# Altium schematic symbol library Resistors (2).SchLib: 59 symbols (part 1 of 2)
Pins are listed as number, name and electrical type; pins without a type are passive.

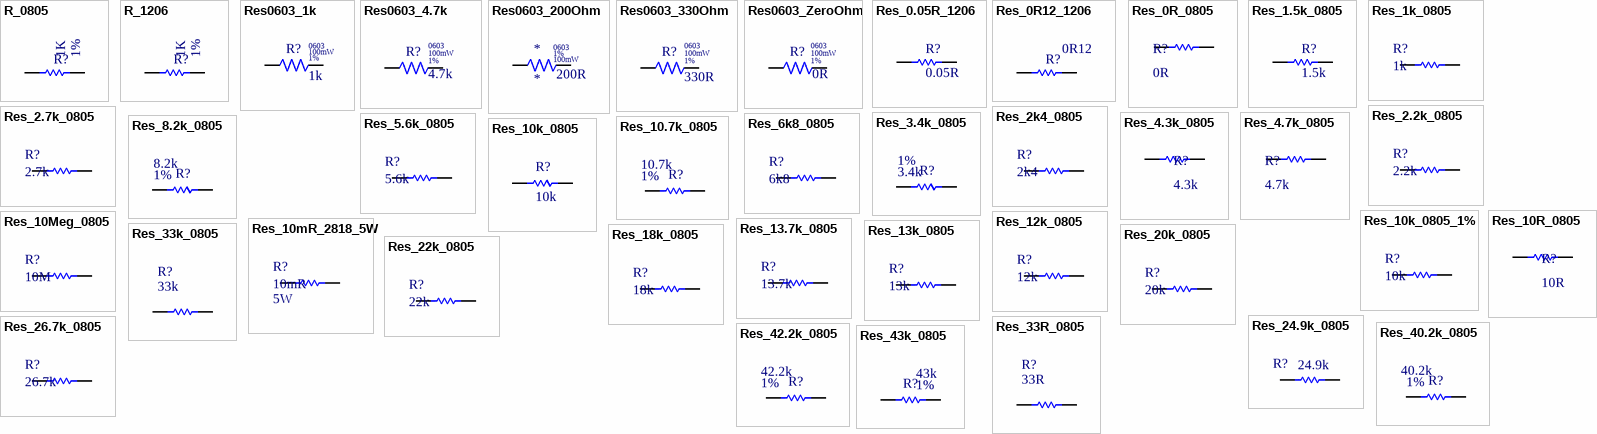
[diagram p0: symbols R_0805 to Res_43k_0805]

## R_0805
designator R?, comment value 1K  Tolerance: 1%  (hidden comment: Resistor SMD 0805)
RES SMD 0805 1k 1/8W
footprint Resistor_0805
pins: 1, 2

## R_1206
designator R?, comment value 1K  Tolerance: 1%  (hidden comment: Resistor SMD 0805)
Resistor SMD 1206
footprint Resistor_1206
pins: 1, 2

## Res0603_1k
designator R?  Power Rating: 100mW  Tolerance: 1%  Resistance: 1k  Case/Package: 0603  (hidden comment: *)
Manufacturer 1: Yageo; Manufacturer Part Number 1: RC0603FR-071KL; Temperature Coefficient: 100ppm/°C; Voltage Rating: 50V; Supplier 1: Digi-Key; Stock 1: 49116190; Pricing 1: 1=0.10000, 10=0.02400, 100=0.00970, 1000=0.00437, 2500=0.00379 (USD); RoHS: Yes; Contact Plating: Tin; Case Code (Imperial): 0603; Case Code (Metric): 1608; Min Operating Temperature: -55°C; Max Operating Temperature: 155°C; Composition: Thick Film; Packaging: Tape and Reel; Termination: SMD/SMT; Military Standard: Not; Length: 1.6mm; Height: 0.45mm; Depth: 0.8mm; Radiation Hardening: No; REACH SVHC: No SVHC; Lead Free: Lead Free; ComponentLink1URL: https://datasheet.ciiva.com/11808/0900766b80f96399-11808081.pdf?src-supplier=RSComponents; ComponentLink1Description: https://datasheet.ciiva.com/11808/0900766b80f96399-11808081.pdf?src-supplier=RSComponents; ComponentLink2URL: https://datasheet.ciiva.com/25906/pyu-rc0603-51-rohs-l-4-25906933.pdf?src-supplier=Avnet+Europe; ComponentLink2Description: https://datasheet.ciiva.com/25906/pyu-rc0603-51-rohs-l-4-25906933.pdf?src-supplier=Avnet+Europe; ComponentLink3URL: https://datasheet.ciiva.com/7660/1868787-7660790.pdf?src-supplier=Element14; ComponentLink3Description: https://datasheet.ciiva.com/7660/1868787-7660790.pdf?src-supplier=Element14; ComponentLink4URL: https://datasheet.ciiva.com/7746/1738695-7746279.pdf?src-supplier=Element14; ComponentLink4Description: https://datasheet.ciiva.com/7746/1738695-7746279.pdf?src-supplier=Element14; ComponentLink5URL: https://datasheet.ciiva.com/7746/1686128-7746280.pdf?src-supplier=Element14; ComponentLink5Description: https://datasheet.ciiva.com/7746/1686128-7746280.pdf?src-supplier=Element14; ComponentLink6URL: https://datasheet.ciiva.com/28386/pyu-rc0603-51-rohs-l-4-28386648.pdf?src-supplier=Avnet+Europe; ComponentLink6Description: https://datasheet.ciiva.com/28386/pyu-rc0603-51-rohs-l-4-28386648.pdf?src-supplier=Avnet+Europe; ComponentLink7URL: https://datasheet.ciiva.com/7746/1738695-7746281.pdf?src-supplier=Element14; ComponentLink7Description: https://datasheet.ciiva.com/7746/1738695-7746281.pdf?src-supplier=Element14; ComponentLink8URL: https://datasheet.ciiva.com/8896/pyu-rc0603-51-rohs-l-4-8896106.pdf?src-supplier=Avnet; ComponentLink8Description: https://datasheet.ciiva.com/8896/pyu-rc0603-51-rohs-l-4-8896106.pdf?src-supplier=Avnet; ComponentLink9URL: https://datasheet.ciiva.com/15189/getdatasheetpartid-404327-15189644.pdf?src-supplier=Verical; ComponentLink9Description: https://datasheet.ciiva.com/15189/getdatasheetpartid-404327-15189644.pdf?src-supplier=Verical; ComponentLink10URL: https://datasheet.ciiva.com/7983/443971-7983613.pdf?src-supplier=Element14; ComponentLink10Description: https://datasheet.ciiva.com/7983/443971-7983613.pdf?src-supplier=Element14; Supplier Part Number 1: 311-1.00KHRCT-ND
footprint RESC0603X06M (Chip Resistor, 2-Leads, Body 1.60x0.80mm, IPC Low Density)
pins: 1, 2

## Res0603_4.7k
designator R?  Power Rating: 100mW  Case/Package: 0603  Tolerance: 1%  Resistance: 4.7k
Manufacturer 1: Yageo; Manufacturer Part Number 1: RC0603FR-074K7L; Voltage Rating (DC): 50V; Temperature Coefficient: 100ppm/°C; ComponentLink1URL: https://datasheet.ciiva.com/7886/aoa0000ce2-7886729.pdf?src-supplier=Element14; ComponentLink1Description: https://datasheet.ciiva.com/7886/aoa0000ce2-7886729.pdf?src-supplier=Element14; ComponentLink2URL: https://datasheet.ciiva.com/48531/aoa0000ce2-48531001.pdf?src-supplier=Avnet; ComponentLink2Description: https://datasheet.ciiva.com/48531/aoa0000ce2-48531001.pdf?src-supplier=Avnet; ComponentLink3URL: https://datasheet.ciiva.com/9117/aoa0000ce2-9117132.pdf?src-supplier=Avnet; ComponentLink3Description: https://datasheet.ciiva.com/9117/aoa0000ce2-9117132.pdf?src-supplier=Avnet; ComponentLink4URL: https://datasheet.ciiva.com/22721/426256-22721099.pdf?src-supplier=Element14; ComponentLink4Description: https://datasheet.ciiva.com/22721/426256-22721099.pdf?src-supplier=Element14; ComponentLink5URL: https://datasheet.ciiva.com/46373/1678782-46373899.pdf?src-supplier=Element14; ComponentLink5Description: https://datasheet.ciiva.com/46373/1678782-46373899.pdf?src-supplier=Element14; ComponentLink6URL: https://datasheet.ciiva.com/46373/1678782-46373900.pdf?src-supplier=Element14; ComponentLink6Description: https://datasheet.ciiva.com/46373/1678782-46373900.pdf?src-supplier=Element14; ComponentLink7URL: https://datasheet.ciiva.com/15189/getdatasheetpartid-422754-15189760.pdf?src-supplier=Verical; ComponentLink7Description: https://datasheet.ciiva.com/15189/getdatasheetpartid-422754-15189760.pdf?src-supplier=Verical; ComponentLink8URL: https://datasheet.ciiva.com/22747/443971-22747528.pdf?src-supplier=Element14; ComponentLink8Description: https://datasheet.ciiva.com/22747/443971-22747528.pdf?src-supplier=Element14; ComponentLink9URL: https://datasheet.ciiva.com/7660/38590-7660794.pdf?src-supplier=Element14; ComponentLink9Description: https://datasheet.ciiva.com/7660/38590-7660794.pdf?src-supplier=Element14; ComponentLink10URL: https://datasheet.ciiva.com/7746/1868787-7746365.pdf?src-supplier=Element14; ComponentLink10Description: https://datasheet.ciiva.com/7746/1868787-7746365.pdf?src-supplier=Element14; ComponentLink11URL: https://datasheet.ciiva.com/46440/1868787-46440909.pdf?src-supplier=Element14; ComponentLink11Description: https://datasheet.ciiva.com/46440/1868787-46440909.pdf?src-supplier=Element14; ComponentLink12URL: https://datasheet.ciiva.com/7746/1738695-7746366.pdf?src-supplier=Element14; ComponentLink12Description: https://datasheet.ciiva.com/7746/1738695-7746366.pdf?src-supplier=Element14; Supplier 1: Digi-Key; Stock 1: 17371470; Pricing 1: 1=0.10000, 10=0.02400, 100=0.00970, 1000=0.00437, 2500=0.00379 (USD); RoHS: Yes; Number of Pins: 2; Case Code (Imperial): 0603; Case Code (Metric): 1608; Min Operating Temperature: -55°C; Max Operating Temperature: 155°C; Packaging: Tape and Reel; Composition: Thick Film; Voltage Rating: 50V; Termination: SMD/SMT; Military Standard: Not; Length: 1.6mm; Height: 0.45mm; Width: 0.8mm; Depth: 0.8mm; Lead Pitch: 0.3mm; REACH SVHC: No SVHC; Lead Free: Lead Free; Supplier Part Number 1: 311-4.70KHRCT-ND
footprint RESC0603X06M (Chip Resistor, 2-Leads, Body 1.60x0.80mm, IPC Low Density)
pins: 1, 2

## Res0603_200Ohm
designator *  Tolerance: 1%  Resistance: 200R  Power Rating: 100mW  Case/Package: 0603
Manufacturer 1: Yageo; Manufacturer Part Number 1: RC0603FR-07200RL; Voltage Rating: 50V; Temperature Coefficient: 100ppm/°C; Working Voltage: 75V; ComponentLink1URL: https://datasheet.ciiva.com/27055/1935748-27055113.pdf?src-supplier=Jameco; ComponentLink1Description: https://datasheet.ciiva.com/27055/1935748-27055113.pdf?src-supplier=Jameco; ComponentLink2URL: https://datasheet.ciiva.com/11808/0900766b80f806dd-11808207.pdf?src-supplier=RSComponents; ComponentLink2Description: https://datasheet.ciiva.com/11808/0900766b80f806dd-11808207.pdf?src-supplier=RSComponents; ComponentLink3URL: https://datasheet.ciiva.com/43460/1678796-43460647.pdf?src-supplier=Farnell; ComponentLink3Description: https://datasheet.ciiva.com/43460/1678796-43460647.pdf?src-supplier=Farnell; ComponentLink4URL: https://datasheet.ciiva.com/28695/1678796-28695833.pdf?src-supplier=Element14; ComponentLink4Description: https://datasheet.ciiva.com/28695/1678796-28695833.pdf?src-supplier=Element14; ComponentLink5URL: https://datasheet.ciiva.com/5959/1678796-5959707.pdf?src-supplier=Farnell; ComponentLink5Description: https://datasheet.ciiva.com/5959/1678796-5959707.pdf?src-supplier=Farnell; ComponentLink6URL: https://datasheet.ciiva.com/16834/aoa0000ce1-16834828.pdf?src-supplier=Future+Electronics; ComponentLink6Description: https://datasheet.ciiva.com/16834/aoa0000ce1-16834828.pdf?src-supplier=Future+Electronics; ComponentLink7URL: https://datasheet.ciiva.com/17215/aoa0000ce1-17215388.pdf?src-supplier=Avnet+Europe; ComponentLink7Description: https://datasheet.ciiva.com/17215/aoa0000ce1-17215388.pdf?src-supplier=Avnet+Europe; ComponentLink8URL: https://datasheet.ciiva.com/46377/1678796-46377868.pdf?src-supplier=Element14; ComponentLink8Description: https://datasheet.ciiva.com/46377/1678796-46377868.pdf?src-supplier=Element14; ComponentLink9URL: https://datasheet.ciiva.com/30199/4aoa0000ce1-30199822.pdf?src-supplier=Onlinecomponents.com; ComponentLink9Description: https://datasheet.ciiva.com/30199/4aoa0000ce1-30199822.pdf?src-supplier=Onlinecomponents.com; ComponentLink10URL: https://datasheet.ciiva.com/9198/aoa0000ce1-9198975.pdf?src-supplier=Avnet; ComponentLink10Description: https://datasheet.ciiva.com/9198/aoa0000ce1-9198975.pdf?src-supplier=Avnet; ComponentLink11URL: https://datasheet.ciiva.com/16758/70255313-16758527.pdf?src-supplier=Allied+Electronics; ComponentLink11Description: https://datasheet.ciiva.com/16758/70255313-16758527.pdf?src-supplier=Allied+Electronics; ComponentLink12URL: https://datasheet.ciiva.com/11808/0900766b80c66297-11808855.pdf?src-supplier=RSComponents; ComponentLink12Description: https://datasheet.ciiva.com/11808/0900766b80c66297-11808855.pdf?src-supplier=RSComponents; ComponentLink13URL: https://datasheet.ciiva.com/2456/pyu-r-int-thick-7-2456909.pdf?src-supplier=Digi-Key; ComponentLink13Description: https://datasheet.ciiva.com/2456/pyu-r-int-thick-7-2456909.pdf?src-supplier=Digi-Key; ComponentLink14URL: https://datasheet.ciiva.com/2456/pyu-r-int-thick-7-2456910.pdf?src-supplier=Digi-Key; ComponentLink14Description: https://datasheet.ciiva.com/2456/pyu-r-int-thick-7-2456910.pdf?src-supplier=Digi-Key; ComponentLink15URL: https://datasheet.ciiva.com/2456/pyu-r-int-thick-7-2456911.pdf?src-supplier=Digi-Key; ComponentLink15Description: https://datasheet.ciiva.com/2456/pyu-r-int-thick-7-2456911.pdf?src-supplier=Digi-Key; ComponentLink16URL: https://datasheet.ciiva.com/11809/0900766b80f96399-11809240.pdf?src-supplier=RSComponents; ComponentLink16Description: https://datasheet.ciiva.com/11809/0900766b80f96399-11809240.pdf?src-supplier=RSComponents; ComponentLink17URL: https://datasheet.ciiva.com/46395/443971-46395029.pdf?src-supplier=Element14; ComponentLink17Description: https://datasheet.ciiva.com/46395/443971-46395029.pdf?src-supplier=Element14; Supplier 1: Digi-Key; Stock 1: 4895828; Pricing 1: 1=0.10000, 10=0.02400, 100=0.00970, 1000=0.00437, 2500=0.00379 (USD); RoHS: Yes; Number of Pins: 2; Case Code (Imperial): 0603; Case Code (Metric): 1608; Min Operating Temperature: -55°C; Max Operating Temperature: 155°C; Packaging: Tape and Reel; Package Quantity: 5000; Termination: SMD/SMT; Composition: Thick Film; Voltage Rating (DC): 50V; Number of Terminations: 2; Military Standard: Not; Length: 1.6mm; Height: 0.45mm; Width: 0.8mm; Depth: 0.8mm; Lead Free: Lead Free; REACH SVHC: No SVHC; Supplier Part Number 1: 311-200HRCT-ND
footprint RESC0603X06M (Chip Resistor, 2-Leads, Body 1.60x0.80mm, IPC Low Density)
pins: 1, 2

## Res0603_330Ohm
designator R?  Tolerance: 1%  Power Rating: 100mW  Resistance: 330R  Case Code (Imperial): 0603
Manufacturer 1: Panasonic; Manufacturer Part Number 1: ERJ3EKF3300V; Voltage Rating: 75V; Temperature Coefficient: 100ppm/°C; Supplier 1: Digi-Key; Supplier Part Number 1: P330HCT-ND; Stock 1: 2521805; Pricing 1: 1=0.100000, 10=0.065000, 100=0.026400, 1000=0.011860, 2500=0.010290 (USD); RoHS: Yes; Mount: Surface Mount; Number of Pins: 2; Weight: 7.1E-05oz; Contact Plating: Tin; Min Operating Temperature: -55°C; Max Operating Temperature: 155°C; Packaging: Tape and Reel; Package Quantity: 1; Composition: Thick Film; Termination: SMD/SMT; Number of Terminations: 2; Military Standard: Not; Max Power Dissipation: 100mW; Voltage Rating (DC): 75V; Features: Automotive AEC-Q200; Length: 1.6mm; Height: 0.022inch; Width: 0.8mm; Depth: 0.8mm; Radiation Hardening: No; REACH SVHC: No SVHC; Lead Free: Lead Free; ComponentLink1URL: https://datasheet.ciiva.com/7886/aoa0000ce2-7886729.pdf?src-supplier=Element14; ComponentLink1Description: https://datasheet.ciiva.com/7886/aoa0000ce2-7886729.pdf?src-supplier=Element14; ComponentLink2URL: https://datasheet.ciiva.com/48531/aoa0000ce2-48531001.pdf?src-supplier=Avnet; ComponentLink2Description: https://datasheet.ciiva.com/48531/aoa0000ce2-48531001.pdf?src-supplier=Avnet; ComponentLink3URL: https://datasheet.ciiva.com/9117/aoa0000ce2-9117132.pdf?src-supplier=Avnet; ComponentLink3Description: https://datasheet.ciiva.com/9117/aoa0000ce2-9117132.pdf?src-supplier=Avnet; ComponentLink4URL: https://datasheet.ciiva.com/22721/426256-22721099.pdf?src-supplier=Element14; ComponentLink4Description: https://datasheet.ciiva.com/22721/426256-22721099.pdf?src-supplier=Element14; ComponentLink5URL: https://datasheet.ciiva.com/46373/1678782-46373899.pdf?src-supplier=Element14; ComponentLink5Description: https://datasheet.ciiva.com/46373/1678782-46373899.pdf?src-supplier=Element14; ComponentLink6URL: https://datasheet.ciiva.com/46373/1678782-46373900.pdf?src-supplier=Element14; ComponentLink6Description: https://datasheet.ciiva.com/46373/1678782-46373900.pdf?src-supplier=Element14; Case Code (Metric): 1608; Case/Package: 0603
footprint RESC0603X06M (Chip Resistor, 2-Leads, Body 1.60x0.80mm, IPC Low Density)
pins: 1, 2

## Res0603_ZeroOhm
designator R?  Resistance: 0R  Tolerance: 1%  Power Rating: 100mW  Case/Package: 0603  (hidden comment: *)
Manufacturer 1: Yageo; Manufacturer Part Number 1: RC0603JR-070RL; Voltage Rating: 50V; Temperature Coefficient: 200ppm/°C; Supplier 1: Digi-Key; Stock 1: 41798498; Pricing 1: 1=0.10000, 10=0.02200, 25=0.01560, 50=0.01200, 100=0.00880, 250=0.00672, 500=0.00538, 1000=0.00396 (USD); RoHS: Yes; Number of Pins: 2; Case Code (Imperial): 0603; Case Code (Metric): 1608; Contact Plating: Tin; Min Operating Temperature: -55°C; Max Operating Temperature: 155°C; Package Quantity: 5000; Packaging: Tape and Reel; Voltage Rating (DC): 50V; Termination: SMD/SMT; Composition: Thick Film; Military Standard: Not; Length: 1.6mm; Height: 0.45mm; Width: 0.8mm; Depth: 0.8mm; Radiation Hardening: No; REACH SVHC: No SVHC; Lead Free: Lead Free; ComponentLink1URL: https://datasheet.ciiva.com/11808/pyu-r-int-6-11808700.pdf?src-supplier=RSComponents; ComponentLink1Description: https://datasheet.ciiva.com/11808/pyu-r-int-6-11808700.pdf?src-supplier=RSComponents; ComponentLink2URL: https://datasheet.ciiva.com/7746/1738695-7746421.pdf?src-supplier=Element14; ComponentLink2Description: https://datasheet.ciiva.com/7746/1738695-7746421.pdf?src-supplier=Element14; ComponentLink3URL: https://datasheet.ciiva.com/8883/pyu-rc0603-51-rohs-l-4-8883045.pdf?src-supplier=Avnet; ComponentLink3Description: https://datasheet.ciiva.com/8883/pyu-rc0603-51-rohs-l-4-8883045.pdf?src-supplier=Avnet; ComponentLink4URL: https://datasheet.ciiva.com/15189/getdatasheetpartid-329462-15189845.pdf?src-supplier=Verical; ComponentLink4Description: https://datasheet.ciiva.com/15189/getdatasheetpartid-329462-15189845.pdf?src-supplier=Verical; ComponentLink5URL: https://datasheet.ciiva.com/7746/1738695-7746422.pdf?src-supplier=Element14; ComponentLink5Description: https://datasheet.ciiva.com/7746/1738695-7746422.pdf?src-supplier=Element14; ComponentLink6URL: https://datasheet.ciiva.com/12555/rc0603-272842-12555254.pdf?src-supplier=Mouser; ComponentLink6Description: https://datasheet.ciiva.com/12555/rc0603-272842-12555254.pdf?src-supplier=Mouser; ComponentLink7URL: https://datasheet.ciiva.com/22747/443971-22747530.pdf?src-supplier=Element14; ComponentLink7Description: https://datasheet.ciiva.com/22747/443971-22747530.pdf?src-supplier=Element14; Supplier Part Number 1: 311-0.0GRCT-ND
footprint RESC0603X06M (Chip Resistor, 2-Leads, Body 1.60x0.80mm, IPC Low Density)
pins: 1, 2

## Res_0.05R_1206
designator R?, comment 0.05R
RES SMD 1206 0.05R 1/4W; Value: WSL1206R0500FEA; Tolerance: ±1%; Datasheet: https://www.vishay.com/docs/30100/wsl.pdf; Supplier 1: Mouser; Supplier Part Number 1: 71-WSL1206R0500FEA; Supplier 2: Digi-Key; Supplier Part Number 2: WSLC-.05CT-ND
footprint Resistor_1206
pins: 1, 2

## Res_0R12_1206
designator R?, comment value 0R12  (hidden comment: RL1206FR-7W0R12L)
RES SMD 1206 0R12 1/2W; Tolerance: 1%; Supplier 1: Digi-Key; Supplier 2: Mouser; Supplier Part Number 1: 311-.12LYDKR-ND; Supplier Part Number 2: 603-RL1206FR-7W0R12L; Datasheet: http://www.yageo.com/documents/recent/PYu-RL_Group_521_RoHS_L_2.pdf
footprint Resistor_1206
pins: 1, 2

## Res_0R_0805
designator R?, comment 0R
RES SMD 0805 0R 1/8W; Value: RC0805JR-070RL; Supplier 1: Mouser; Supplier Part Number 1: 603-RC0805JR-070RL
footprint Resistor_0805
pins: 1, 2

## Res_1.5k_0805
designator R?, comment 1.5k
RES SMD 0805 1.5k 1/8W; Tolerance: 1%; Value: 1K; Supplier 1: Digi-Key; Supplier Part Number 1: P1.50KCDKR-ND
footprint Resistor_0805
pins: 1, 2

## Res_1k_0805
designator R?, comment 1k
RES SMD 0805 1k 1/8W; Value: RC0805FR-071KL; Supplier 1: Digi-Key; Supplier 2: Mouser; Supplier Part Number 1: 311-1.00KCRDKR-ND; Supplier Part Number 2: 603-RC0805FR-071KL
footprint Resistor_0805
pins: 1, 2

## Res_2.2k_0805
designator R?, comment 2.2k
YAGEO         RC0805JR-072K2L             RES, THICK FILM, 2K2, 5%, 0.125W, 0805; Resistance: 2.2kR; Temperature Coefficient: 100ppm/°C; Power Rating: 125mW; Voltage Rating: 150V; Supplier 1: Digi-Key; Manufacturer: Yageo; Manufacturer Part Number: RC0805JR-072K2L; Stock 1: 110000; Pricing 1: 5000=0.00468, 10000=0.00406, 25000=0.00357, 50000=0.00327, 125000=0.00321 (USD); Case/Package: 0805; Contact Plating: Tin,Lead,Matte; Case Code (Imperial): 0805; Case Code (Metric): 2012; Min Operating Temperature: -55°C; Max Operating Temperature: 155°C; Tolerance: 5%; Packaging: Tape and Reel; Composition: Thick Film; Termination: SMD/SMT; Military Standard: Not; Length: 2mm; Depth: 1.25mm; Radiation Hardening: No; REACH SVHC: Unknown; Lead Free: Lead Free; ComponentLink1URL: https://datasheet.ciiva.com/12667/rc0805-12667397.pdf; ComponentLink1Description: https://datasheet.ciiva.com/12667/rc0805-12667397.pdf; ComponentLink2URL: https://datasheet.ciiva.com/15190/getdatasheetpartid-251869-15190044.pdf; ComponentLink2Description: https://datasheet.ciiva.com/15190/getdatasheetpartid-251869-15190044.pdf; ComponentLink3URL: https://datasheet.ciiva.com/7941/442941-7941935.pdf; ComponentLink3Description: https://datasheet.ciiva.com/7941/442941-7941935.pdf; Supplier Part Number 1: 311-2.2KARTR-ND
footprint Resistor_0805
pins: 1, 2

## Res_2.7k_0805
designator R?, comment 2.7k
RES SMD 2.7K OHM 1% 1/8W 0805; Manufacturer: Yageo; Manufacturer Part Number: RC0805FR-072K7L; Resistance: 2.7kR; Temperature Coefficient: 100ppm/°C; Power Rating: 125mW; Voltage Rating: 150V; Supplier 1: Digi-Key; Stock 1: 50315; Pricing 1: 1=0.1, 10=0.042, 100=0.0169, 1000=0.00759, 2500=0.00659 (USD); Case/Package: 0805; Case Code (Imperial): 0805; Case Code (Metric): 2012; Min Operating Temperature: -55°C; Max Operating Temperature: 155°C; Tolerance: 1%; Packaging: Tape and Reel; Composition: Thick Film; Package Quantity: 1; Termination: SMD/SMT; Number of Terminations: 2; Military Standard: Not; Max Power Dissipation: 125mW; Features: Moisture Resistant; Working Voltage: 150V; Length: 2mm; Height: 0.024inch; Width: 0.049inch; Depth: 1.25mm; REACH SVHC: Unknown; Lead Free: Lead Free; ComponentLink1URL: https://datasheet.ciiva.com/11819/0900766b8106beab-11819827.pdf; ComponentLink1Description: https://datasheet.ciiva.com/11819/0900766b8106beab-11819827.pdf; ComponentLink2URL: https://datasheet.ciiva.com/2457/pyu-r-int-thick-7-2457116.pdf; ComponentLink2Description: https://datasheet.ciiva.com/2457/pyu-r-int-thick-7-2457116.pdf; ComponentLink3URL: https://datasheet.ciiva.com/7941/444164-7941756.pdf; ComponentLink3Description: https://datasheet.ciiva.com/7941/444164-7941756.pdf; ComponentLink4URL: https://datasheet.ciiva.com/2457/pyu-r-int-thick-7-2457117.pdf; ComponentLink4Description: https://datasheet.ciiva.com/2457/pyu-r-int-thick-7-2457117.pdf; ComponentLink5URL: https://datasheet.ciiva.com/7941/444164-7941757.pdf; ComponentLink5Description: https://datasheet.ciiva.com/7941/444164-7941757.pdf; ComponentLink6URL: https://datasheet.ciiva.com/2457/pyu-r-int-thick-7-2457118.pdf; ComponentLink6Description: https://datasheet.ciiva.com/2457/pyu-r-int-thick-7-2457118.pdf; ComponentLink7URL: https://datasheet.ciiva.com/16742/rc0805-16742255.pdf; ComponentLink7Description: https://datasheet.ciiva.com/16742/rc0805-16742255.pdf; Supplier Part Number 1: 311-2.70KCRDKR-ND
footprint Resistor_0805
pins: 1, 2

## Res_2k4_0805
designator R?, comment 2k4
RES SMD 0805 2k4 OHM 1% 1/8W; Value: RC0805FR-072K4L; Supplier 2: Mouser; Supplier 1: Digi-Key; Supplier Part Number 1: 311-2.40KCRCT-ND; Supplier Part Number 2: 603-RC0805FR-072K4L
footprint Resistor_0805
pins: 1, 2

## Res_3.4k_0805
designator R?  Tolerance: 1%  Resistance: 3.4k  (hidden comment: *)
RES SMD 3.4K OHM 1% 1/8W 0805; Manufacturer: Vishay; Manufacturer Part Number: CRCW08053K40FKEA; Temperature Coefficient: 100ppm/°C; Power Rating: 125mW; Voltage Rating: 150V; Supplier 1: Digi-Key; RoHS: Yes; Category: Chip SMD Resistors; Stock 1: 5477; Pricing 1: 1=0.10000, 10=0.06200, 100=0.02540, 1000=0.01142, 2500=0.00991 (USD); Case/Package: 0805; Number of Pins: 2; Weight: 0.000194oz; Case Code (Imperial): 0805; Case Code (Metric): 2012; Contact Plating: Tin; Min Operating Temperature: -55°C; Max Operating Temperature: 155°C; Packaging: Tape and Reel; Composition: Thick Film; Number of Terminations: 2; Package Quantity: 10; Termination: SMD/SMT; Max Power Dissipation: 125mW; Voltage Rating (DC): 150V; Features: Automotive AEC-Q200; Military Standard: Not; Length: 2mm; Height: 0.45mm; Width: 1.25mm; Depth: 1.25mm; Radiation Hardening: No; Lead Free: Lead Free; REACH SVHC: Unknown; ComponentLink1URL: https://datasheet.ciiva.com/11812/0900766b80d98b26-11812608.pdf?src-supplier=RSComponents; ComponentLink1Description: https://datasheet.ciiva.com/11812/0900766b80d98b26-11812608.pdf?src-supplier=RSComponents; ComponentLink2URL: https://datasheet.ciiva.com/5541/dcrcwe3-109170-5541493.pdf?src-supplier=Mouser; ComponentLink2Description: https://datasheet.ciiva.com/5541/dcrcwe3-109170-5541493.pdf?src-supplier=Mouser; ComponentLink3URL: https://datasheet.ciiva.com/2467/dcrcwe3-2467560.pdf?src-supplier=Digi-Key; ComponentLink3Description: https://datasheet.ciiva.com/2467/dcrcwe3-2467560.pdf?src-supplier=Digi-Key; ComponentLink4URL: https://datasheet.ciiva.com/2467/dcrcwe3-2467561.pdf?src-supplier=Digi-Key; ComponentLink4Description: https://datasheet.ciiva.com/2467/dcrcwe3-2467561.pdf?src-supplier=Digi-Key; ComponentLink5URL: https://datasheet.ciiva.com/2467/dcrcwe3-2467562.pdf?src-supplier=Digi-Key; ComponentLink5Description: https://datasheet.ciiva.com/2467/dcrcwe3-2467562.pdf?src-supplier=Digi-Key; ComponentLink6URL: https://datasheet.ciiva.com/7178/1635184-7178794.pdf?src-supplier=Newark; ComponentLink6Description: https://datasheet.ciiva.com/7178/1635184-7178794.pdf?src-supplier=Newark; ComponentLink7URL: https://datasheet.ciiva.com/16772/70201119-16772668.pdf?src-supplier=Allied+Electronics; ComponentLink7Description: https://datasheet.ciiva.com/16772/70201119-16772668.pdf?src-supplier=Allied+Electronics; ComponentLink8URL: https://datasheet.ciiva.com/9078/dcrcwe3-9078973.pdf?src-supplier=Avnet; ComponentLink8Description: https://datasheet.ciiva.com/9078/dcrcwe3-9078973.pdf?src-supplier=Avnet; ComponentLink9URL: https://datasheet.ciiva.com/7670/1697337-7670302.pdf?src-supplier=Element14; ComponentLink9Description: https://datasheet.ciiva.com/7670/1697337-7670302.pdf?src-supplier=Element14; ComponentLink10URL: https://datasheet.ciiva.com/16852/dcrcwe3-16852302.pdf?src-supplier=Avnet+Europe; ComponentLink10Description: https://datasheet.ciiva.com/16852/dcrcwe3-16852302.pdf?src-supplier=Avnet+Europe; ComponentLink11URL: https://datasheet.ciiva.com/22700/1697337-22700741.pdf?src-supplier=Element14; ComponentLink11Description: https://datasheet.ciiva.com/22700/1697337-22700741.pdf?src-supplier=Element14; ComponentLink12URL: https://datasheet.ciiva.com/22676/1847332-22676555.pdf?src-supplier=Element14; ComponentLink12Description: https://datasheet.ciiva.com/22676/1847332-22676555.pdf?src-supplier=Element14; ComponentLink13URL: https://datasheet.ciiva.com/7670/1697337-7670301.pdf?src-supplier=Element14; ComponentLink13Description: https://datasheet.ciiva.com/7670/1697337-7670301.pdf?src-supplier=Element14; Supplier Part Number 1: 541-3.40KCCT-ND
footprint Resistor_0805
pins: 1, 2

## Res_4.3k_0805
designator R?, comment 4.3k
RES SMD 0805 4.3k 1/8W; Tolerance: 1%; Value: CRCW08054K30FKEA; Supplier 1: Mouser; Supplier Part Number 1: 71-CRCW08054K30FKEA
footprint Resistor_0805
pins: 1, 2

## Res_4.7k_0805
designator R?, comment 4.7k
RES SMD 0805 4.7k 1/8W; Value: ERJ-6ENF4701V; Tolerance: 1%; Supplier 1: Digi-Key; Supplier Part Number 1: P4.70KCDKR-ND
footprint Resistor_0805
pins: 1, 2

## Res_5.6k_0805
designator R?, comment 5.6k
RES SMD 0805 5.6K 1/8W; Value: RC0805FR-075K6L; Supplier 1: Digi-Key; Supplier 2: Mouser; Supplier Part Number 1: 311-5.60KCRDKR-ND; Supplier Part Number 2: 603-RC0805FR-075K6L
footprint Resistor_0805
pins: 1, 2

## Res_6k8_0805
designator R?, comment 6k8
RES SMD 0805 6K8 1/8W; Value: RC0805FR-076K8L; Supplier 1: Digi-Key; Supplier 2: Mouser; Supplier Part Number 2: 603-RC0805FR-076K8L; Supplier Part Number 1: 311-6.80KCRCT-ND
footprint Resistor_0805
pins: 1, 2

## Res_8.2k_0805
designator R?  Resistance: 8.2k  Tolerance: 1%  (hidden comment: *)
RES SMD 8.2K OHM 1% 1/8W 0805; Manufacturer: Panasonic; Manufacturer Part Number: ERJ-6ENF8201V; Temperature Coefficient: 100ppm/°C; Power Rating: 125mW; Voltage Rating: 150V; Supplier 1: Digi-Key; RoHS: Yes; Category: Chip SMD Resistors; Stock 1: 190418; Pricing 1: 1=0.10000, 10=0.07200, 100=0.02750, 1000=0.01210, 2500=0.01045 (USD); Mount: Surface Mount; Case/Package: 0805; Number of Pins: 2; Case Code (Metric): 2012; Case Code (Imperial): 0805; Contact Plating: Tin; Min Operating Temperature: -55°C; Max Operating Temperature: 155°C; Packaging: Tape and Reel; Composition: Thick Film; Package Quantity: 5000; Voltage Rating (DC): 150V; Number of Terminations: 2; Termination: SMD/SMT; Max Power Dissipation: 125mW; Military Standard: Not; Length: 2mm; Height: 0.6mm; Width: 0.049inch; Depth: 1.25mm; Radiation Hardening: No; REACH SVHC: No SVHC; ComponentLink1URL: https://datasheet.ciiva.com/11821/0900766b80f80784-11821706.pdf?src-supplier=RSComponents; ComponentLink1Description: https://datasheet.ciiva.com/11821/0900766b80f80784-11821706.pdf?src-supplier=RSComponents; ComponentLink2URL: https://datasheet.ciiva.com/24026/aoa0000ce2-24026822.pdf?src-supplier=Mouser; ComponentLink2Description: https://datasheet.ciiva.com/24026/aoa0000ce2-24026822.pdf?src-supplier=Mouser; ComponentLink3URL: https://datasheet.ciiva.com/7944/426256-7944663.pdf?src-supplier=Element14; ComponentLink3Description: https://datasheet.ciiva.com/7944/426256-7944663.pdf?src-supplier=Element14; ComponentLink4URL: https://datasheet.ciiva.com/30139/aoa0000ce2-30139560.pdf?src-supplier=Onlinecomponents.com; ComponentLink4Description: https://datasheet.ciiva.com/30139/aoa0000ce2-30139560.pdf?src-supplier=Onlinecomponents.com; ComponentLink5URL: https://datasheet.ciiva.com/16783/70260748-16783211.pdf?src-supplier=Allied+Electronics; ComponentLink5Description: https://datasheet.ciiva.com/16783/70260748-16783211.pdf?src-supplier=Allied+Electronics; ComponentLink6URL: https://datasheet.ciiva.com/22673/1678782-22673709.pdf?src-supplier=Element14; ComponentLink6Description: https://datasheet.ciiva.com/22673/1678782-22673709.pdf?src-supplier=Element14; ComponentLink7URL: https://datasheet.ciiva.com/6082/426256-6082159.pdf?src-supplier=Farnell; ComponentLink7Description: https://datasheet.ciiva.com/6082/426256-6082159.pdf?src-supplier=Farnell; Supplier Part Number 1: P8.20KCCT-ND
footprint Resistor_0805
pins: 1, 2

## Res_10.7k_0805
designator R?  Tolerance: 1%  Resistance: 10.7k  (hidden comment: *)
RES SMD 10.7K OHM 1% 1/8W 0805; Manufacturer: Vishay; Manufacturer Part Number: CRCW080510K7FKEA; Temperature Coefficient: 100ppm/°C; Max Power Dissipation: 125mW; Voltage Rating: 150V; Supplier 1: Digi-Key; RoHS: Yes; Category: Chip SMD Resistors; Stock 1: 1607; Pricing 1: 1=0.10000, 10=0.06200, 100=0.02540, 1000=0.01142, 2500=0.00991 (USD); Case/Package: 0805; Number of Pins: 2; Weight: 0.000194oz; Case Code (Imperial): 0805; Case Code (Metric): 2012; Contact Plating: Tin; Min Operating Temperature: -55°C; Max Operating Temperature: 155°C; Packaging: Tape and Reel; Composition: Thick Film; Number of Terminations: 2; Package Quantity: 10; Power Rating: 125mW; Voltage Rating (DC): 150V; Features: Automotive AEC-Q200; Termination: SMD/SMT; Military Standard: Not; Length: 2mm; Height: 0.02inch; Width: 1.25mm; Depth: 1.25mm; Radiation Hardening: No; Lead Free: Lead Free; REACH SVHC: Unknown; ComponentLink1URL: https://datasheet.ciiva.com/22702/1697337-22702903.pdf?src-supplier=Element14; ComponentLink1Description: https://datasheet.ciiva.com/22702/1697337-22702903.pdf?src-supplier=Element14; ComponentLink2URL: https://datasheet.ciiva.com/5551/dcrcwe3-109170-5551721.pdf?src-supplier=Mouser; ComponentLink2Description: https://datasheet.ciiva.com/5551/dcrcwe3-109170-5551721.pdf?src-supplier=Mouser; ComponentLink3URL: https://datasheet.ciiva.com/16781/70201119-16781742.pdf?src-supplier=Allied+Electronics; ComponentLink3Description: https://datasheet.ciiva.com/16781/70201119-16781742.pdf?src-supplier=Allied+Electronics; ComponentLink4URL: https://datasheet.ciiva.com/7725/125364-7725775.pdf?src-supplier=Element14; ComponentLink4Description: https://datasheet.ciiva.com/7725/125364-7725775.pdf?src-supplier=Element14; ComponentLink5URL: https://datasheet.ciiva.com/2467/dcrcwe3-2467578.pdf?src-supplier=Digi-Key; ComponentLink5Description: https://datasheet.ciiva.com/2467/dcrcwe3-2467578.pdf?src-supplier=Digi-Key; ComponentLink6URL: https://datasheet.ciiva.com/2467/dcrcwe3-2467579.pdf?src-supplier=Digi-Key; ComponentLink6Description: https://datasheet.ciiva.com/2467/dcrcwe3-2467579.pdf?src-supplier=Digi-Key; ComponentLink7URL: https://datasheet.ciiva.com/2467/dcrcwe3-2467580.pdf?src-supplier=Digi-Key; ComponentLink7Description: https://datasheet.ciiva.com/2467/dcrcwe3-2467580.pdf?src-supplier=Digi-Key; Supplier Part Number 1: 541-10.7KCCT-ND
footprint Resistor_0805
pins: 1, 2

## Res_10k_0805
designator R?, comment 10k
RES 10K OHM 5% 1/8W 0805; Manufacturer 1: Stackpole Electronics; Manufacturer Part Number 1: RMCF0805JT10K0; Resistance: 10kR; Power Rating: 125mW; Temperature Coefficient: 100ppm/°C; Supplier 1: Digi-Key; Stock 1: 866067; Pricing 1: 1=0,10000, 10=0,02000, 100=0,00820, 1000=0,00367, 2500=0,00319 (USD); RoHS: Yes; Mount: Surface Mount; Case/Package: 0805; Case Code (Metric): 2012; Case Code (Imperial): 0805; Contact Plating: Tin,Matte; Min Operating Temperature: -55°C; Max Operating Temperature: 155°C; Packaging: Tape and Reel; Tolerance: 5%; Composition: Thick Film; Number of Terminations: 2; Military Standard: Not; Max Power Dissipation: 125mW; Features: Automotive AEC-Q200; Length: 2mm; Height: 0.026inch; Width: 0.049inch; Depth: 1.25mm; Radiation Hardening: No; Lead Free: Lead Free; ComponentLink1URL: https://datasheet.ciiva.com/15193/getdatasheetpartid-363745-15193627.pdf?src-supplier=Verical; ComponentLink1Description: https://datasheet.ciiva.com/15193/getdatasheetpartid-363745-15193627.pdf?src-supplier=Verical; Supplier Part Number 1: RMCF0805JT10K0CT-ND
footprint Resistor_0805
pins: 1, 2

## Res_10k_0805_1%
designator R?, comment 10k
RES SMD 0805 10k 1/8W; Value: RC0805FR-0710KL; Supplier 2: Mouser; Supplier 1: Digi-Key; Supplier Part Number 2: 603-RC0805FR-0710KL; Supplier Part Number 1: 311-10.0KCRCT-ND
footprint Resistor_0805
pins: 1, 2

## Res_10Meg_0805
designator R?, comment 10M
RES SMD 0805 10M 1/8W; Value: RC0805FR-0710ML; Supplier 2: Mouser; Supplier 1: Digi-Key; Supplier Part Number 2: 603-RC0805FR-0710ML; Supplier Part Number 1: 311-10.0MCRCT-ND
footprint Resistor_0805
pins: 1, 2

## Res_10mR_2818_5W
designator R?, comment 10mR  Power: 5W
Resistor SMD 2818 10mR 5W; Supplier 1: Digi-Key; Supplier Part Number 1: HCSM2818FT10L0CT-ND; ComponentLink1Description: datasheet; ComponentLink1URL: https://www.seielect.com/catalog/sei-hcsm.pdf; ComponentLink2Description: Digikey URL; ComponentLink2URL: https://www.digikey.com/product-detail/en/stackpole-electronics-inc/HCSM2818FT10L0/HCSM2818FT10L0CT-ND/9557199
footprint RES_2818 (Rsense resistor package)
pins: 1, 2

## Res_10R_0805
designator R?, comment 10R
RES SMD 0805 10R 1/4W; Value: CR0805-JW-100ELF; Supplier 1: Digi-Key; Supplier 2: Mouser; Supplier Part Number 1: CR0805-JW-100ELFDKR-ND; Supplier Part Number 2: 652-CR0805JW-100ELF; Datasheet: https://br.mouser.com/datasheet/2/54/hpreztr-777398.pdf
footprint Resistor_0805
pins: 1, 2

## Res_12k_0805
designator R?, comment 12k
12 kOhms ±1% 0.5W, 1/2W Chip Resistor 0805 (2012 Metric) Automotive AEC-Q200, Pulse Withstanding Thick Film; Manufacturer 1: Panasonic; Manufacturer Part Number 1: ERJ-P6WF1202V; Resistance: 12kR; Power Rating: 500mW; Voltage Rating: 150V; Temperature Coefficient: 200ppm/°C; Supplier 1: Digi-Key; Stock 1: 18078; Pricing 1: 1=0,61000, 10=0,46500, 100=0,19560, 1000=0,10794, 2500=0,10119 (USD); RoHS: Yes; Case/Package: 0805; Case Code (Metric): 2012; Case Code (Imperial): 0805; Contact Plating: Tin; Min Operating Temperature: -55°C; Max Operating Temperature: 155°C; Tolerance: 1%; Packaging: Cut Tape; Composition: Thick Film; Number of Terminations: 2; Termination: Flat; Max Power Dissipation: 500mW; Voltage Rating (DC): 150V; Features: Automotive AEC-Q200; Length: 0.079inch; Height: 0.03inch; Width: 0.049inch; Depth: 1.25mm; REACH SVHC: No SVHC; ComponentLink1URL: https://datasheet.ciiva.com/48525/erjp-series-eng-tds-48525493.pdf?src-supplier=Distrelec; ComponentLink1Description: https://datasheet.ciiva.com/48525/erjp-series-eng-tds-48525493.pdf?src-supplier=Distrelec; ComponentLink2URL: https://datasheet.ciiva.com/7944/1790600-7944858.pdf?src-supplier=Element14; ComponentLink2Description: https://datasheet.ciiva.com/7944/1790600-7944858.pdf?src-supplier=Element14; Supplier Part Number 1: P16898CT-ND; Category: Chip Resistor - Surface Mount
footprint Resistor_0805
pins: 1, 2

## Res_13.7k_0805
designator R?, comment 13.7k
RES SMD 13.7K OHM 1% 1/8W 0805; Manufacturer: Panasonic; Manufacturer Part Number: ERJ-6ENF1372V; Resistance: 13.7kR; Temperature Coefficient: 100ppm/°C; Max Power Dissipation: 125mW; Voltage Rating: 150V; Supplier 1: Digi-Key; Supplier Part Number 1: 311-590CRDKR-ND; Supplier 2: Digi-Key; RoHS: Yes; Category: Chip SMD Resistors; Stock 2: 107044; Pricing 2: 1=0.10000, 10=0.07200, 100=0.02750, 1000=0.01210, 2500=0.01045 (USD); Mount: Surface Mount; Case/Package: 0805; Case Code (Metric): 2012; Case Code (Imperial): 0805; Contact Plating: Tin; Min Operating Temperature: -55°C; Max Operating Temperature: 155°C; Tolerance: 1%; Packaging: Tape and Reel; Composition: Thick Film; Number of Terminations: 2; Package Quantity: 1; Features: Automotive AEC-Q200; Power Rating: 125mW; Termination: SMD/SMT; Voltage Rating (DC): 150V; Military Standard: Not; Length: 2mm; Height: 0.6mm; Width: 0.049inch; Depth: 1.25mm; Radiation Hardening: No; Lead Free: Lead Free; REACH SVHC: No SVHC; ComponentLink1URL: https://datasheet.ciiva.com/16514/aoa0000ce2-16514054.pdf?src-supplier=Avnet+Asia; ComponentLink1Description: https://datasheet.ciiva.com/16514/aoa0000ce2-16514054.pdf?src-supplier=Avnet+Asia; ComponentLink2URL: https://datasheet.ciiva.com/22668/1678782-22668682.pdf?src-supplier=Element14; ComponentLink2Description: https://datasheet.ciiva.com/22668/1678782-22668682.pdf?src-supplier=Element14; ComponentLink3URL: https://datasheet.ciiva.com/16760/70260748-16760891.pdf?src-supplier=Allied+Electronics; ComponentLink3Description: https://datasheet.ciiva.com/16760/70260748-16760891.pdf?src-supplier=Allied+Electronics; ComponentLink4URL: https://datasheet.ciiva.com/9193/aoa0000ce2-9193278.pdf?src-supplier=Avnet; ComponentLink4Description: https://datasheet.ciiva.com/9193/aoa0000ce2-9193278.pdf?src-supplier=Avnet; ComponentLink5URL: https://datasheet.ciiva.com/24071/aoa0000ce2-24071182.pdf?src-supplier=Mouser; ComponentLink5Description: https://datasheet.ciiva.com/24071/aoa0000ce2-24071182.pdf?src-supplier=Mouser; Supplier Part Number 2: P13.7KCCT-ND
footprint Resistor_0805
pins: 1, 2

## Res_13k_0805
designator R?, comment 13k
RES SMD 0805 13K OHM 1/8W; Value: RC0805FR-0713KL; Supplier 2: Mouser; Supplier 1: Digi-Key; Supplier Part Number 2: 603-RC0805FR-0713KL; Supplier Part Number 1: 311-13.0KCRCT-ND
footprint Resistor_0805
pins: 1, 2

## Res_18k_0805
designator R?, comment 18k
RES SMD 0805 18K OHM 1/8W; Value: RC0805FR-0718KL; Supplier 2: Mouser; Supplier 1: Digi-Key; Supplier Part Number 2: 603-RC0805FR-0718KL; Supplier Part Number 1: 311-18.0KCRCT-ND
footprint Resistor_0805
pins: 1, 2

## Res_20k_0805
designator R?, comment 20k
120 Ohms ±1% 0.125W, 1/8W Chip Resistor 0805 (2012 Metric) Moisture Resistant Thick Film; Manufacturer 1: Yageo; Manufacturer Part Number 1: RC0805FR-07120RL; Resistance: 120R; Power Rating: 125mW; Voltage Rating: 150V; Temperature Coefficient: 100ppm/°C; Supplier 1: Digi-Key; Stock 1: 837936; Pricing 1: 1=0,10000, 10=0,04000, 100=0,01620, 1000=0,00726, 2500=0,00630 (USD); RoHS: Yes; Case/Package: 0805; Case Code (Metric): 2012; Case Code (Imperial): 0805; Min Operating Temperature: -55°C; Max Operating Temperature: 155°C; Tolerance: 1%; Package Quantity: 1; Packaging: Tape and Reel; Composition: Thick Film; Number of Terminations: 2; Termination: SMD/SMT; Military Standard: Not; Max Power Dissipation: 125mW; Features: Moisture Resistant; Length: 2mm; Height: 0.5mm; Width: 0.049inch; Depth: 1.25mm; REACH SVHC: Unknown; Lead Free: Lead Free; ComponentLink1URL: https://datasheet.ciiva.com/11819/0900766b8106beab-11819786.pdf?src-supplier=RSComponents; ComponentLink1Description: https://datasheet.ciiva.com/11819/0900766b8106beab-11819786.pdf?src-supplier=RSComponents; ComponentLink2URL: https://datasheet.ciiva.com/2491/pyu-r-int-thick-7-2491585.pdf?src-supplier=Digi-Key; ComponentLink2Description: https://datasheet.ciiva.com/2491/pyu-r-int-thick-7-2491585.pdf?src-supplier=Digi-Key; ComponentLink3URL: https://datasheet.ciiva.com/2491/pyu-r-int-thick-7-2491587.pdf?src-supplier=Digi-Key; ComponentLink3Description: https://datasheet.ciiva.com/2491/pyu-r-int-thick-7-2491587.pdf?src-supplier=Digi-Key; ComponentLink4URL: https://datasheet.ciiva.com/12558/rc0805-257173-12558661.pdf?src-supplier=Mouser; ComponentLink4Description: https://datasheet.ciiva.com/12558/rc0805-257173-12558661.pdf?src-supplier=Mouser; ComponentLink5URL: https://datasheet.ciiva.com/7941/444164-7941692.pdf?src-supplier=Element14; ComponentLink5Description: https://datasheet.ciiva.com/7941/444164-7941692.pdf?src-supplier=Element14; ComponentLink6URL: https://datasheet.ciiva.com/16964/rc0805-16964606.pdf?src-supplier=Future+Electronics; ComponentLink6Description: https://datasheet.ciiva.com/16964/rc0805-16964606.pdf?src-supplier=Future+Electronics; ComponentLink7URL: https://datasheet.ciiva.com/2491/pyu-r-int-thick-7-2491586.pdf?src-supplier=Digi-Key; ComponentLink7Description: https://datasheet.ciiva.com/2491/pyu-r-int-thick-7-2491586.pdf?src-supplier=Digi-Key; ComponentLink8URL: https://datasheet.ciiva.com/7941/444164-7941691.pdf?src-supplier=Element14; ComponentLink8Description: https://datasheet.ciiva.com/7941/444164-7941691.pdf?src-supplier=Element14; Category: Chip Resistor - Surface Mount; Supplier Part Number 1: 311-120CRCT-ND
footprint Resistor_0805
pins: 1, 2

## Res_22k_0805
designator R?, comment 22k
RES SMD 0805 22k 1/2W; Supplier 1: Mouser; Supplier 2: Digi-Key; Supplier Part Number 1: 667-ERJ-P6WF2202V; Supplier Part Number 2: P16901CT-ND
footprint Resistor_0805
pins: 1, 2

## Res_24.9k_0805
designator R?, comment Resistance: 24.9k  (hidden comment: 26.7k)
PANASONIC - ERJ6ENF2492V - RES 24K9 1% 0.125W 0805 PELÍC GRUESA; Manufacturer Part Number: ERJ-6ENF2492V; Temperature Coefficient: 100ppm/°C; Max Power Dissipation: 125mW; Voltage Rating (DC): 150V; Supplier 1: Digi-Key; Manufacturer: Panasonic; RoHS: Yes; Category: Chip SMD Resistors; Stock 1: 120536; Pricing 1: 1=0.10000, 10=0.07200, 100=0.02750, 1000=0.01210, 2500=0.01045 (USD); Mount: Surface Mount; Case/Package: 0805; Weight: 0.000194oz; Case Code (Metric): 2012; Case Code (Imperial): 0805; Contact Plating: Tin; Min Operating Temperature: -55°C; Max Operating Temperature: 155°C; Tolerance: 1%; Packaging: Tape and Reel; Composition: Thick Film; Number of Terminations: 2; Package Quantity: 1; Power Rating: 125mW; Features: Automotive AEC-Q200; Voltage Rating: 150V; Termination: SMD/SMT; Military Standard: Not; Length: 2mm; Height: 0.6mm; Width: 0.049inch; Depth: 1.25mm; Radiation Hardening: No; Lead Free: Lead Free; REACH SVHC: Unknown; ComponentLink1URL: https://datasheet.ciiva.com/11821/0900766b80f80784-11821590.pdf?src-supplier=RSComponents; ComponentLink1Description: https://datasheet.ciiva.com/11821/0900766b80f80784-11821590.pdf?src-supplier=RSComponents; ComponentLink2URL: https://datasheet.ciiva.com/43460/426256-43460057.pdf?src-supplier=Farnell; ComponentLink2Description: https://datasheet.ciiva.com/43460/426256-43460057.pdf?src-supplier=Farnell; ComponentLink3URL: https://datasheet.ciiva.com/46377/426256-46377961.pdf?src-supplier=Element14; ComponentLink3Description: https://datasheet.ciiva.com/46377/426256-46377961.pdf?src-supplier=Element14; ComponentLink4URL: https://datasheet.ciiva.com/28536/1678782-28536286.pdf?src-supplier=Element14; ComponentLink4Description: https://datasheet.ciiva.com/28536/1678782-28536286.pdf?src-supplier=Element14; ComponentLink5URL: https://datasheet.ciiva.com/5969/426256-5969439.pdf?src-supplier=Farnell; ComponentLink5Description: https://datasheet.ciiva.com/5969/426256-5969439.pdf?src-supplier=Farnell; ComponentLink6URL: https://datasheet.ciiva.com/24158/aoa0000ce2-24158805.pdf?src-supplier=Mouser; ComponentLink6Description: https://datasheet.ciiva.com/24158/aoa0000ce2-24158805.pdf?src-supplier=Mouser; ComponentLink7URL: https://datasheet.ciiva.com/16437/aoa0000ce2-16437798.pdf?src-supplier=Future+Electronics; ComponentLink7Description: https://datasheet.ciiva.com/16437/aoa0000ce2-16437798.pdf?src-supplier=Future+Electronics; ComponentLink8URL: https://datasheet.ciiva.com/28695/1678782-28695849.pdf?src-supplier=Element14; ComponentLink8Description: https://datasheet.ciiva.com/28695/1678782-28695849.pdf?src-supplier=Element14; ComponentLink9URL: https://datasheet.ciiva.com/16779/70260748-16779706.pdf?src-supplier=Allied+Electronics; ComponentLink9Description: https://datasheet.ciiva.com/16779/70260748-16779706.pdf?src-supplier=Allied+Electronics; ComponentLink10URL: https://datasheet.ciiva.com/46389/426256-46389707.pdf?src-supplier=Element14; ComponentLink10Description: https://datasheet.ciiva.com/46389/426256-46389707.pdf?src-supplier=Element14; ComponentLink11URL: https://datasheet.ciiva.com/17210/aoa0000ce2-17210717.pdf?src-supplier=Avnet+Europe; ComponentLink11Description: https://datasheet.ciiva.com/17210/aoa0000ce2-17210717.pdf?src-supplier=Avnet+Europe; Supplier Part Number 1: P24.9KCCT-ND
footprint Resistor_0805
pins: 1, 2

## Res_26.7k_0805
designator R?, comment 26.7k
Resistor SMD 0805 590R 1/8W; Supplier 1: Digi-Key; Supplier Part Number 1: 311-590CRDKR-ND; Supplier 2: Digi-Key; Supplier Part Number 2: 541-26.7KCCT-ND
footprint Resistor_0805
pins: 1, 2

## Res_33k_0805
designator R?, comment 33k
RES SMD 0805 33K 1/8W; Value: RC0805FR-0733KL; Supplier Part Number 2: 603-RC0805FR-1333KL; Supplier 1: Digi-Key; Supplier Part Number 1: 311-33.0KCRCT-ND; Supplier 2: Mouser
footprint Resistor_0805
pins: 1, 2

## Res_33R_0805
designator R?, comment 33R
RES SMD 0805 33R 1/8W; Value: ERJ-6ENF33R0V; Tolerance: ±1%; Supplier 1: Digi-Key; Supplier Part Number 1: P33.0CDKR-ND
footprint Resistor_0805
pins: 1, 2

## Res_40.2k_0805
designator R?  Tolerance: 1%  Resistance: 40.2k  (hidden comment: *)
RES SMD 40.2K OHM 1% 1/8W 0805; Manufacturer: Vishay; Manufacturer Part Number: CRCW080540K2FKEA; Temperature Coefficient: 100ppm/°C; Power Rating: 125mW; Voltage Rating: 150V; Supplier 1: Digi-Key; RoHS: Yes; Category: Chip SMD Resistors; Stock 1: 58512; Pricing 1: 1=0.10000, 10=0.06200, 100=0.02540, 1000=0.01142, 2500=0.00991 (USD); Case/Package: 0805; Number of Pins: 2; Weight: 0.000194oz; Case Code (Metric): 2012; Case Code (Imperial): 0805; Contact Plating: Tin; Min Operating Temperature: -55°C; Max Operating Temperature: 155°C; Packaging: Tape and Reel; Composition: Thick Film; Number of Terminations: 2; Voltage Rating (DC): 150V; Max Power Dissipation: 125mW; Package Quantity: 10; Features: Automotive AEC-Q200; Termination: SMD/SMT; Military Standard: Not; Length: 2mm; Height: 0.45mm; Width: 0.049inch; Depth: 1.25mm; Radiation Hardening: No; Lead Free: Lead Free; REACH SVHC: Unknown; ComponentLink1URL: https://datasheet.ciiva.com/11809/0900766b80d98b26-11809080.pdf?src-supplier=RSComponents; ComponentLink1Description: https://datasheet.ciiva.com/11809/0900766b80d98b26-11809080.pdf?src-supplier=RSComponents; ComponentLink2URL: https://datasheet.ciiva.com/2525/dcrcwe3-2525876.pdf?src-supplier=Digi-Key; ComponentLink2Description: https://datasheet.ciiva.com/2525/dcrcwe3-2525876.pdf?src-supplier=Digi-Key; ComponentLink3URL: https://datasheet.ciiva.com/22705/1697337-22705878.pdf?src-supplier=Element14; ComponentLink3Description: https://datasheet.ciiva.com/22705/1697337-22705878.pdf?src-supplier=Element14; ComponentLink4URL: https://datasheet.ciiva.com/16852/dcrcwe3-16852329.pdf?src-supplier=Avnet+Europe; ComponentLink4Description: https://datasheet.ciiva.com/16852/dcrcwe3-16852329.pdf?src-supplier=Avnet+Europe; ComponentLink5URL: https://datasheet.ciiva.com/16788/70201119-16788107.pdf?src-supplier=Allied+Electronics; ComponentLink5Description: https://datasheet.ciiva.com/16788/70201119-16788107.pdf?src-supplier=Allied+Electronics; ComponentLink6URL: https://datasheet.ciiva.com/2525/dcrcwe3-2525875.pdf?src-supplier=Digi-Key; ComponentLink6Description: https://datasheet.ciiva.com/2525/dcrcwe3-2525875.pdf?src-supplier=Digi-Key; ComponentLink7URL: https://datasheet.ciiva.com/2525/dcrcwe3-2525877.pdf?src-supplier=Digi-Key; ComponentLink7Description: https://datasheet.ciiva.com/2525/dcrcwe3-2525877.pdf?src-supplier=Digi-Key; ComponentLink8URL: https://datasheet.ciiva.com/15159/getdatasheetpartid-37745-15159461.pdf?src-supplier=Verical; ComponentLink8Description: https://datasheet.ciiva.com/15159/getdatasheetpartid-37745-15159461.pdf?src-supplier=Verical; ComponentLink9URL: https://datasheet.ciiva.com/16391/dcrcwe3-16391192.pdf?src-supplier=Future+Electronics; ComponentLink9Description: https://datasheet.ciiva.com/16391/dcrcwe3-16391192.pdf?src-supplier=Future+Electronics; ComponentLink10URL: https://datasheet.ciiva.com/9010/dcrcwe3-9010170.pdf?src-supplier=Avnet; ComponentLink10Description: https://datasheet.ciiva.com/9010/dcrcwe3-9010170.pdf?src-supplier=Avnet; Supplier Part Number 1: 541-40.2KCCT-ND
footprint Resistor_0805
pins: 1, 2